# Altium footprint library WSOF6-20-10.PcbLib: 2 footprints
Each footprint in its own frame and in the unit in brackets; x right, y up, seen from the top. Pads: shape width x height; smd on the part's side, far side on the other; paste and mask are expansions set on the pad; w line width, h text height; cw(c..) or ccw(c..) is an arc to the next point about the centre after c.
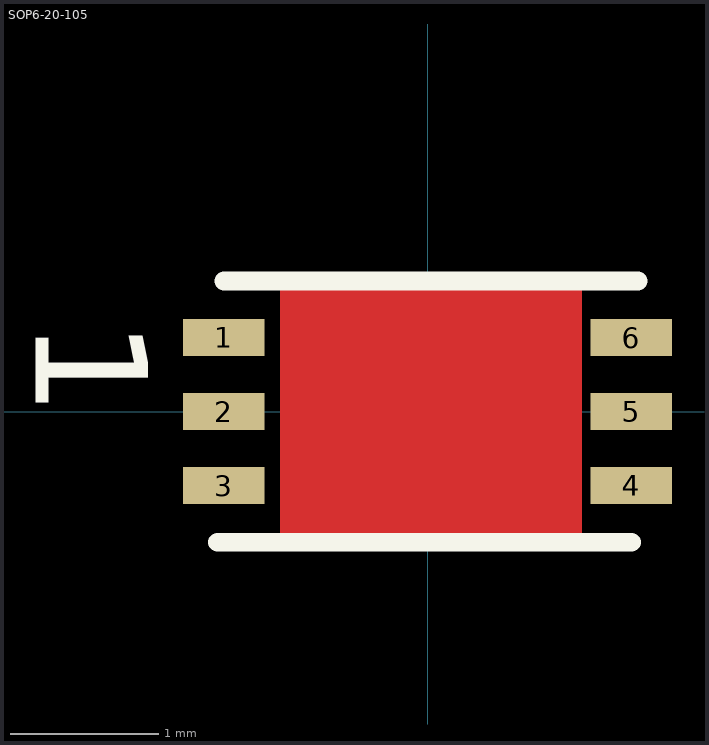
[diagram p0: the footprints below, top view; thin cyan lines are the x and y axes]

## PCBComponent_1 [mm]

## SOP6-20-105 [mm] "16位输出型光强度传感器"
height 0.75
pads (6):
  rect 0.55x0.25 smd: 1(-1.375,0.5) 2(-1.375,0) 3(-1.375,-0.5) 4(1.375,-0.5) 5(1.375,0) 6(1.375,0.5)
Top Layer:
  pour cut-out: -0.994,0.881 -0.994,-0.881 1.038,-0.881 1.038,0.881
Top Overlay:
  lines w0.127: -1.419,-0.881 1.375,-0.881 ; -1.375,0.881 1.419,0.881
  text "1" at -2.645,0.627 h0.76